# EAGLE library part 68HC05C2 (library micro-motorola)
MICROCONTROLLER/MEMORY DEVICE
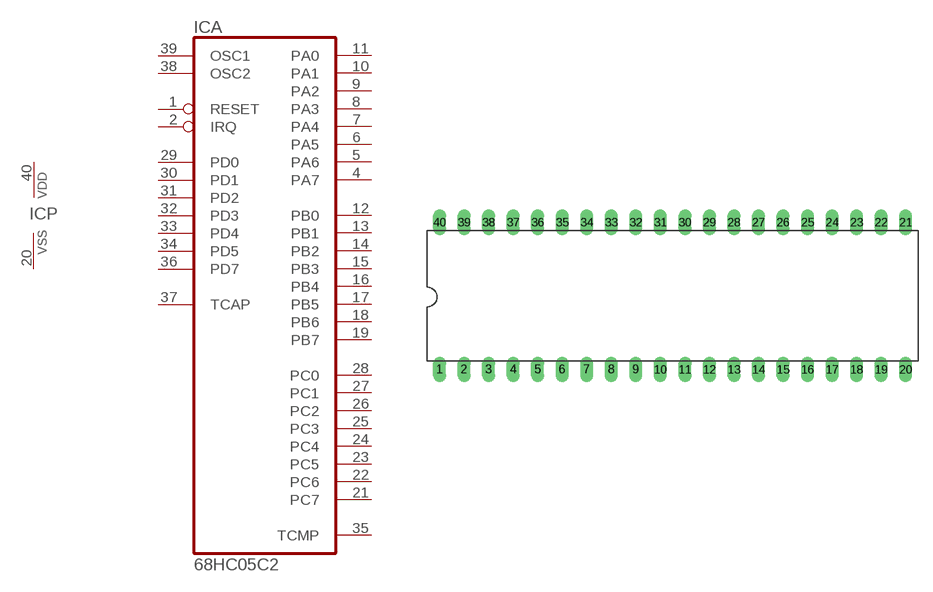
[diagram p20: symbol with the pads of DIL40; footprint DIL40]

Designator prefix IC; gates A=68HC05C2 P=VSSVDD

## 68HC05C2  [DIL40]
1  A:RESET  in
2  A:IRQ  in
4  A:PA7
5  A:PA6
6  A:PA5
7  A:PA4
8  A:PA3
9  A:PA2
10  A:PA1
11  A:PA0
12  A:PB0
13  A:PB1
14  A:PB2
15  A:PB3
16  A:PB4
17  A:PB5
18  A:PB6
19  A:PB7
20  P:VSS  pwr
21  A:PC7
22  A:PC6
23  A:PC5
24  A:PC4
25  A:PC3
26  A:PC2
27  A:PC1
28  A:PC0
29  A:PD0  in
30  A:PD1  in
31  A:PD2  in
32  A:PD3  in
33  A:PD4  in
34  A:PD5  in
35  A:TCMP  out
36  A:PD7  in
37  A:TCAP  in
38  A:OSC2  pas
39  A:OSC1  in
40  P:VDD  pwr

## Footprint DIL40 (pad centres in mm)
Dual In Line Package
drill 0.813 long: 1 -24.13,-7.62; 2 -21.59,-7.62; 3 -19.05,-7.62; 4 -16.51,-7.62; 5 -13.97,-7.62; 6 -11.43,-7.62; 7 -8.89,-7.62; 8 -6.35,-7.62; 9 -3.81,-7.62; 10 -1.27,-7.62; 11 1.27,-7.62; 12 3.81,-7.62; 13 6.35,-7.62; 14 8.89,-7.62; 15 11.43,-7.62; 16 13.97,-7.62; 17 16.51,-7.62; 18 19.05,-7.62; 19 21.59,-7.62; 20 24.13,-7.62; 21 24.13,7.62; 22 21.59,7.62; 23 19.05,7.62; 24 16.51,7.62; 25 13.97,7.62; 26 11.43,7.62; 27 8.89,7.62; 28 6.35,7.62; 29 3.81,7.62; 30 1.27,7.62; 31 -1.27,7.62; 32 -3.81,7.62; 33 -6.35,7.62; 34 -8.89,7.62; 35 -11.43,7.62; 36 -13.97,7.62; 37 -16.51,7.62; 38 -19.05,7.62; 39 -21.59,7.62; 40 -24.13,7.62